# EAGLE library part LINX-TNSS_GM (library components)
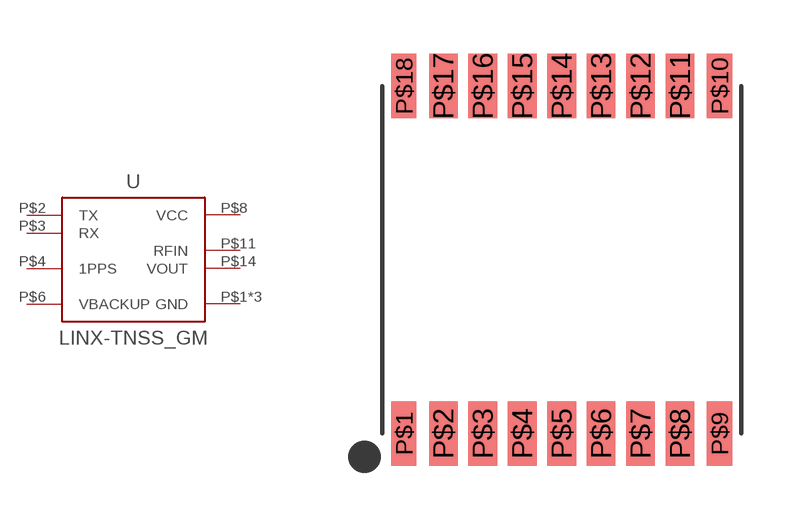
[diagram p3: symbol with the pads of LINX-GNSS_TM; footprint LINX-GNSS_TM]

Designator prefix -

## LINX-TNSS_GM  [LINX-GNSS_TM]
P$1  GND
P$2  TX
P$3  RX
P$4  1PPS
P$6  VBACKUP
P$8  VCC
P$10  GND
P$11  RFIN
P$12  GND
P$14  VOUT

## Footprint LINX-GNSS_TM (pad centres in mm)
smd 0.7 x 1.8: P$1 -4.4,-4.85; P$9 4.4,-4.85; P$10 4.4,4.85; P$18 -4.4,4.85
smd 0.8 x 1.8: P$2 -3.3,-4.85; P$3 -2.2,-4.85; P$4 -1.1,-4.85; P$5 0,-4.85; P$6 1.1,-4.85; P$7 2.2,-4.85; P$8 3.3,-4.85; P$11 3.3,4.85; P$12 2.2,4.85; P$13 1.1,4.85; P$14 0,4.85; P$15 -1.1,4.85; P$16 -2.2,4.85; P$17 -3.3,4.85